# Altium integrated library Linear Technology Operational Amplifiers (LT2000-LT6000).IntLib: 1710 symbols (part 68 of 75)
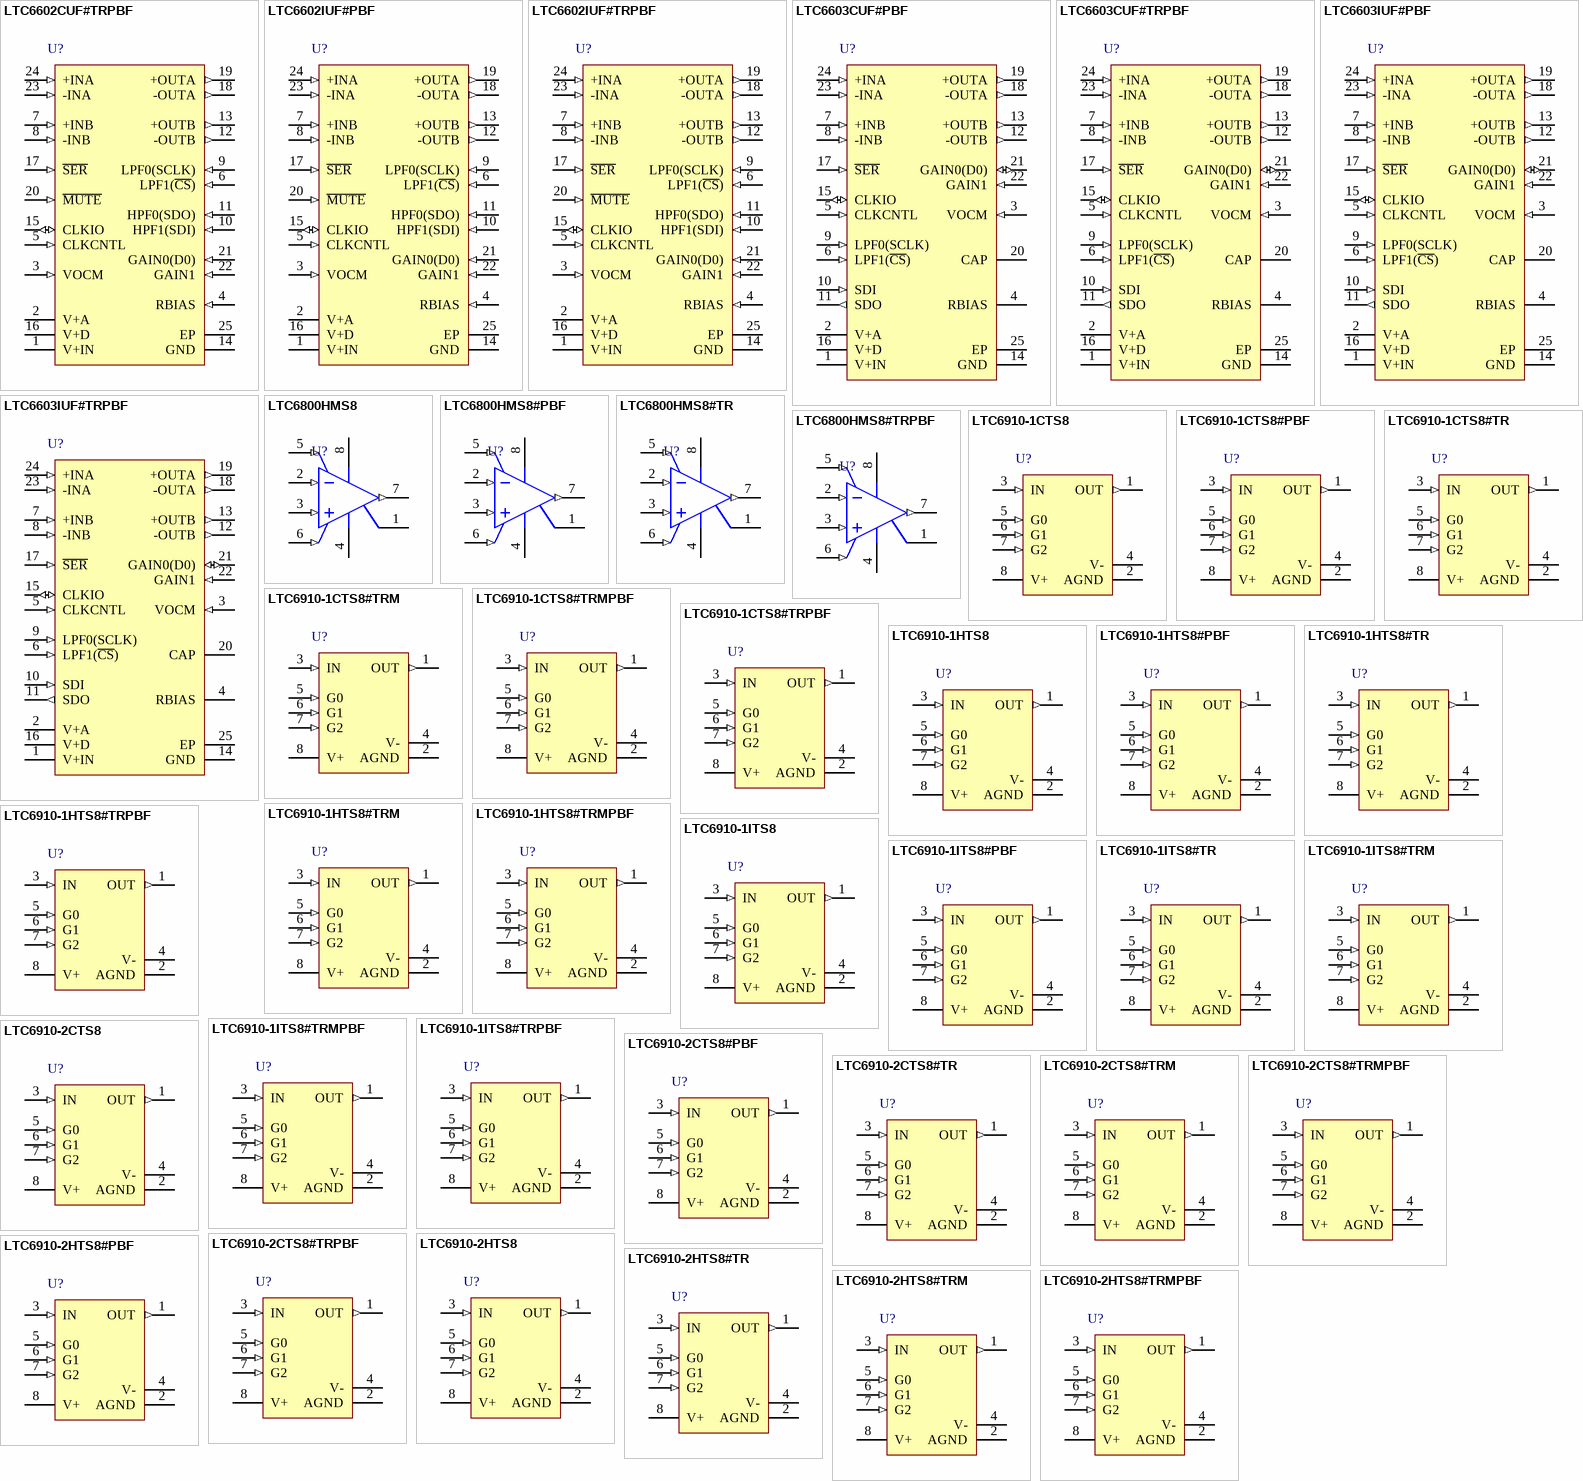
[diagram p147: symbols LTC6602CUF#TRPBF to LTC6910-2HTS8#TRMPBF]

## LTC6602CUF#TRPBF
designator U?
Dual Channel, High Frequency Bandpass / Lowpass Filter, 0.9 MHz Typical GBW, 2.7 to 3.6 V, 24-Pin QFN (UF24), Commercial, Pb-Free, Reel; Linear Technology Part Number: LTC6602; Manufacturer: Linear Technology; PartNumber: LTC6602CUF#TRPBF; Channels (#): 2; GBW (MHz) Typical: 0.9; Is (mA) Typical: 65; Vos (mV) Typical: 7; Vs Max (V): 3.6; Vs Min (V): 2.7; DatasheetVersion: Rev. C; PackageVersion: Rev B; PackageReference: LT-UF-24; PackageDescription: 24-Lead Plastic QFN, Body 4 x 4 mm, Pitch 0.5 mm; Supplier 1: Digi-Key; Supplier Part Number 1: LTC6602CUF#TRPBF-ND; Packing: Reel; RoHS: Pb-Free; Type: DIFF; Mounting Technology: Surface Mount; Code_JEDEC: MO-220; ComponentLink1Description: Manufacturer URL; ComponentLink1URL: http://www.linear.com/; ComponentLink2Description: Datasheet; ComponentLink2URL: http://cds.linear.com/docs/en/datasheet/6602fc.pdf; ComponentLink3Description: Package Specification; ComponentLink3URL: http://cds.linear.com/docs/en/packaging/%28UF24%29%20QFN%2005-08-1697%20Rev%20B.pdf
footprint LT-UF-24_N (QFN, 24-Leads, Body 4x4mm, Pitch 0.5mm, Thermal Pad 2.45x2.45mm, IPC Medium Density)
footprint LT-UF-24_L (QFN, 24-Leads, Body 4x4mm, Pitch 0.5mm, Thermal Pad 2.45x2.45mm, IPC High Density)
footprint LT-UF-24_M (QFN, 24-Leads, Body 4x4mm, Pitch 0.5mm, Thermal Pad 2.45x2.45mm, IPC Low Density)
pins: 1 V+IN (power) "Input Voltage Supply (2.7V =< V =< 5.5V). This supply must be kept free from noise and ripple. It should be bypassed directly to a ground plane with a 0.1uF capacitor unless it is tied to V+A (Pin 2). The bypass should be as (See Datasheet)", 2 V+A (power) "Analog Voltage Supply (2.7V =< V =< 3.6V). This supply must be kept free from noise and ripple. It should be bypassed directly to a ground plane with a 0.1uF capacitor. The bypass should be as close as possible to the IC.", 3 VOCM (in) "Output common mode voltage reference. If floated, an internal resistive divider sets the voltage on this pin to half the supply voltage (typically 1.5V), maximizing the dynamic range of the filter. If this pin is floated, it (See Datasheet)", 4 RBIAS (in) "Oscillator Frequency-Setting Resistor Input. The value of the resistor connected between this pin and ground determines the frequency of the master oscillator, and sets the bias currents for the filter networks. The voltage (See Datasheet)", 5 CLKCNTL (in) "Clock Control Input. This three-state input selects the function of CLKIO (Pin 15). Tying the CLKCNTL pin to ground allows the CLKIO pin to be driven by an external clock (CLKIO is the master clock input).", 6 LPF1(~{CS}) (in) "Logic Input. When in pin programmable control mode, this pin is the MSB of the lowpass cutoff frequency control code; in serial control mode, this pin is the chip select input (active low).", 7 +INB (in) "Channel B differential inputs. The input range and input resistance are described in the Applications Information section. Input voltages which exceed V+IN (Pin 1) should be avoided.", 8 -INB (in) "Channel B differential inputs. The input range and input resistance are described in the Applications Information section. Input voltages which exceed V+IN (Pin 1) should be avoided.", 9 LPF0(SCLK) (in) "Logic Input. When in pin programmable control mode, this pin is the LSB of the lowpass cutoff frequency control code; in serial control mode, this pin is the clock of the serial interface.", 10 HPF1(SDI) (in) "Logic Input. When in pin programmable control mode, this pin is the MSB of the highpass cutoff frequency control code; in serial control mode, this pin is the serial data input.", 11 HPF0(SDO) (in) "Logic Input. When in pin programmable control mode, this pin is the LSB of the highpass cutoff frequency control code; in serial control mode, this pin is the serial data output.", 12 -OUTB (out) "Channel B differential filter outputs. These pins can drive 1k and/or 50pF loads. For larger capacitive loads, an external 100ohm series resistor is recommended for each output. The common mode voltage of the filter outputs (See Datasheet)", 13 +OUTB (out) "Channel B differential filter outputs. These pins can drive 1k and/or 50pF loads. For larger capacitive loads, an external 100ohm series resistor is recommended for each output. The common mode voltage of the filter outputs (See Datasheet)", 14 GND (power) "Ground. Connect to a ground plane for best performance.", 15 CLKIO (io) "When CLKCNTL (Pin 5) is tied to ground, CLKIO is the master clock input. When CLKCNTL is floated, CLKIO is pulled to ground by a weak, 5uA pulldown. When CLKCNTL is tied to V+D (Pin 16), CLKIO is the master clock output. (See Datasheet)", 16 V+D (power) "Digital Voltage Supply (2.7V =< V =< 3.6V). This supply must be kept free from noise and ripple. It should be bypassed directly to a ground plane with a 0.1uF capacitor. The bypass should be as close as possible to the IC.", 17 ~{SER} (in) "Interface Selection Input. When tied to V+D (Pin 16), the interface is in pin programmable control mode, i.e. the filter gain and cutoff frequencies are programmed by the GAIN1, GAIN0, HPF1, HPF0, LPF1 and LPF0 pin (See Datasheet)", 18 -OUTA (out) "Channel A differential filter outputs. These pins can drive 1k and/or 50pF loads. For larger capacitive loads, an external 100ohm series resistor is recommended for each output. The common mode voltage of the filter outputs (See Datasheet)", 19 +OUTA (out) "Channel A differential filter outputs. These pins can drive 1k and/or 50pF loads. For larger capacitive loads, an external 100ohm series resistor is recommended for each output. The common mode voltage of the filter outputs (See Datasheet)", 20 ~{MUTE} (in) "MUTEX input. Drive to ground to disconnect and mute the inputs. Float or drive to V+D (Pin 16) for normal operation.", 21 GAIN0(D0) (in) "Logic Input. When in pin programmable control mode, this pin is the LSB of the gain control code; in serial control mode, this pin is the LSB of the serial control register, an output.", 22 GAIN1 (in) "Logic Input. When in pin programmable control mode, this pin is the MSB of the gain control code; in serial control mode, this pin is a no-connect.", 23 -INA (in) "Channel A differential inputs. The input range and input resistance are described in the Applications Information section. Input voltage levels can range from GND to the V+IN supply rail.", 24 +INA (in) "Channel A differential inputs. The input range and input resistance are described in the Applications Information section. Input voltage levels can range from GND to the V+IN supply rail.", 25 EP (power) "Ground. The Exposed Pad must be soldered to PCB."

## LTC6602IUF#PBF
designator U?
Dual Channel, High Frequency Bandpass / Lowpass Filter, 0.9 MHz Typical GBW, 2.7 to 3.6 V, 24-Pin QFN (UF24), Industrial, Pb-Free; Linear Technology Part Number: LTC6602; Manufacturer: Linear Technology; PartNumber: LTC6602IUF#PBF; Channels (#): 2; GBW (MHz) Typical: 0.9; Is (mA) Typical: 65; Vos (mV) Typical: 7; Vs Max (V): 3.6; Vs Min (V): 2.7; DatasheetVersion: Rev. C; PackageVersion: Rev B; PackageReference: LT-UF-24; PackageDescription: 24-Lead Plastic QFN, Body 4 x 4 mm, Pitch 0.5 mm; Supplier 1: Digi-Key; Supplier Part Number 1: LTC6602IUF#PBF-ND; RoHS: Pb-Free; Type: DIFF; Mounting Technology: Surface Mount; Code_JEDEC: MO-220; ComponentLink1Description: Manufacturer URL; ComponentLink1URL: http://www.linear.com/; ComponentLink2Description: Datasheet; ComponentLink2URL: http://cds.linear.com/docs/en/datasheet/6602fc.pdf; ComponentLink3Description: Package Specification; ComponentLink3URL: http://cds.linear.com/docs/en/packaging/%28UF24%29%20QFN%2005-08-1697%20Rev%20B.pdf
footprint LT-UF-24_N (QFN, 24-Leads, Body 4x4mm, Pitch 0.5mm, Thermal Pad 2.45x2.45mm, IPC Medium Density)
footprint LT-UF-24_L (QFN, 24-Leads, Body 4x4mm, Pitch 0.5mm, Thermal Pad 2.45x2.45mm, IPC High Density)
footprint LT-UF-24_M (QFN, 24-Leads, Body 4x4mm, Pitch 0.5mm, Thermal Pad 2.45x2.45mm, IPC Low Density)
pins: 1 V+IN (power) "Input Voltage Supply (2.7V =< V =< 5.5V). This supply must be kept free from noise and ripple. It should be bypassed directly to a ground plane with a 0.1uF capacitor unless it is tied to V+A (Pin 2). The bypass should be as (See Datasheet)", 2 V+A (power) "Analog Voltage Supply (2.7V =< V =< 3.6V). This supply must be kept free from noise and ripple. It should be bypassed directly to a ground plane with a 0.1uF capacitor. The bypass should be as close as possible to the IC.", 3 VOCM (in) "Output common mode voltage reference. If floated, an internal resistive divider sets the voltage on this pin to half the supply voltage (typically 1.5V), maximizing the dynamic range of the filter. If this pin is floated, it (See Datasheet)", 4 RBIAS (in) "Oscillator Frequency-Setting Resistor Input. The value of the resistor connected between this pin and ground determines the frequency of the master oscillator, and sets the bias currents for the filter networks. The voltage (See Datasheet)", 5 CLKCNTL (in) "Clock Control Input. This three-state input selects the function of CLKIO (Pin 15). Tying the CLKCNTL pin to ground allows the CLKIO pin to be driven by an external clock (CLKIO is the master clock input).", 6 LPF1(~{CS}) (in) "Logic Input. When in pin programmable control mode, this pin is the MSB of the lowpass cutoff frequency control code; in serial control mode, this pin is the chip select input (active low).", 7 +INB (in) "Channel B differential inputs. The input range and input resistance are described in the Applications Information section. Input voltages which exceed V+IN (Pin 1) should be avoided.", 8 -INB (in) "Channel B differential inputs. The input range and input resistance are described in the Applications Information section. Input voltages which exceed V+IN (Pin 1) should be avoided.", 9 LPF0(SCLK) (in) "Logic Input. When in pin programmable control mode, this pin is the LSB of the lowpass cutoff frequency control code; in serial control mode, this pin is the clock of the serial interface.", 10 HPF1(SDI) (in) "Logic Input. When in pin programmable control mode, this pin is the MSB of the highpass cutoff frequency control code; in serial control mode, this pin is the serial data input.", 11 HPF0(SDO) (in) "Logic Input. When in pin programmable control mode, this pin is the LSB of the highpass cutoff frequency control code; in serial control mode, this pin is the serial data output.", 12 -OUTB (out) "Channel B differential filter outputs. These pins can drive 1k and/or 50pF loads. For larger capacitive loads, an external 100ohm series resistor is recommended for each output. The common mode voltage of the filter outputs (See Datasheet)", 13 +OUTB (out) "Channel B differential filter outputs. These pins can drive 1k and/or 50pF loads. For larger capacitive loads, an external 100ohm series resistor is recommended for each output. The common mode voltage of the filter outputs (See Datasheet)", 14 GND (power) "Ground. Connect to a ground plane for best performance.", 15 CLKIO (io) "When CLKCNTL (Pin 5) is tied to ground, CLKIO is the master clock input. When CLKCNTL is floated, CLKIO is pulled to ground by a weak, 5uA pulldown. When CLKCNTL is tied to V+D (Pin 16), CLKIO is the master clock output. (See Datasheet)", 16 V+D (power) "Digital Voltage Supply (2.7V =< V =< 3.6V). This supply must be kept free from noise and ripple. It should be bypassed directly to a ground plane with a 0.1uF capacitor. The bypass should be as close as possible to the IC.", 17 ~{SER} (in) "Interface Selection Input. When tied to V+D (Pin 16), the interface is in pin programmable control mode, i.e. the filter gain and cutoff frequencies are programmed by the GAIN1, GAIN0, HPF1, HPF0, LPF1 and LPF0 pin (See Datasheet)", 18 -OUTA (out) "Channel A differential filter outputs. These pins can drive 1k and/or 50pF loads. For larger capacitive loads, an external 100ohm series resistor is recommended for each output. The common mode voltage of the filter outputs (See Datasheet)", 19 +OUTA (out) "Channel A differential filter outputs. These pins can drive 1k and/or 50pF loads. For larger capacitive loads, an external 100ohm series resistor is recommended for each output. The common mode voltage of the filter outputs (See Datasheet)", 20 ~{MUTE} (in) "MUTEX input. Drive to ground to disconnect and mute the inputs. Float or drive to V+D (Pin 16) for normal operation.", 21 GAIN0(D0) (in) "Logic Input. When in pin programmable control mode, this pin is the LSB of the gain control code; in serial control mode, this pin is the LSB of the serial control register, an output.", 22 GAIN1 (in) "Logic Input. When in pin programmable control mode, this pin is the MSB of the gain control code; in serial control mode, this pin is a no-connect.", 23 -INA (in) "Channel A differential inputs. The input range and input resistance are described in the Applications Information section. Input voltage levels can range from GND to the V+IN supply rail.", 24 +INA (in) "Channel A differential inputs. The input range and input resistance are described in the Applications Information section. Input voltage levels can range from GND to the V+IN supply rail.", 25 EP (power) "Ground. The Exposed Pad must be soldered to PCB."

## LTC6602IUF#TRPBF
designator U?
Dual Channel, High Frequency Bandpass / Lowpass Filter, 0.9 MHz Typical GBW, 2.7 to 3.6 V, 24-Pin QFN (UF24), Industrial, Pb-Free, Reel; Linear Technology Part Number: LTC6602; Manufacturer: Linear Technology; PartNumber: LTC6602IUF#TRPBF; Channels (#): 2; GBW (MHz) Typical: 0.9; Is (mA) Typical: 65; Vos (mV) Typical: 7; Vs Max (V): 3.6; Vs Min (V): 2.7; DatasheetVersion: Rev. C; PackageVersion: Rev B; PackageReference: LT-UF-24; PackageDescription: 24-Lead Plastic QFN, Body 4 x 4 mm, Pitch 0.5 mm; Supplier 1: Digi-Key; Supplier Part Number 1: LTC6602IUF#TRPBF-ND; Packing: Reel; RoHS: Pb-Free; Type: DIFF; Mounting Technology: Surface Mount; Code_JEDEC: MO-220; ComponentLink1Description: Manufacturer URL; ComponentLink1URL: http://www.linear.com/; ComponentLink2Description: Datasheet; ComponentLink2URL: http://cds.linear.com/docs/en/datasheet/6602fc.pdf; ComponentLink3Description: Package Specification; ComponentLink3URL: http://cds.linear.com/docs/en/packaging/%28UF24%29%20QFN%2005-08-1697%20Rev%20B.pdf
footprint LT-UF-24_N (QFN, 24-Leads, Body 4x4mm, Pitch 0.5mm, Thermal Pad 2.45x2.45mm, IPC Medium Density)
footprint LT-UF-24_L (QFN, 24-Leads, Body 4x4mm, Pitch 0.5mm, Thermal Pad 2.45x2.45mm, IPC High Density)
footprint LT-UF-24_M (QFN, 24-Leads, Body 4x4mm, Pitch 0.5mm, Thermal Pad 2.45x2.45mm, IPC Low Density)
pins: 1 V+IN (power) "Input Voltage Supply (2.7V =< V =< 5.5V). This supply must be kept free from noise and ripple. It should be bypassed directly to a ground plane with a 0.1uF capacitor unless it is tied to V+A (Pin 2). The bypass should be as (See Datasheet)", 2 V+A (power) "Analog Voltage Supply (2.7V =< V =< 3.6V). This supply must be kept free from noise and ripple. It should be bypassed directly to a ground plane with a 0.1uF capacitor. The bypass should be as close as possible to the IC.", 3 VOCM (in) "Output common mode voltage reference. If floated, an internal resistive divider sets the voltage on this pin to half the supply voltage (typically 1.5V), maximizing the dynamic range of the filter. If this pin is floated, it (See Datasheet)", 4 RBIAS (in) "Oscillator Frequency-Setting Resistor Input. The value of the resistor connected between this pin and ground determines the frequency of the master oscillator, and sets the bias currents for the filter networks. The voltage (See Datasheet)", 5 CLKCNTL (in) "Clock Control Input. This three-state input selects the function of CLKIO (Pin 15). Tying the CLKCNTL pin to ground allows the CLKIO pin to be driven by an external clock (CLKIO is the master clock input).", 6 LPF1(~{CS}) (in) "Logic Input. When in pin programmable control mode, this pin is the MSB of the lowpass cutoff frequency control code; in serial control mode, this pin is the chip select input (active low).", 7 +INB (in) "Channel B differential inputs. The input range and input resistance are described in the Applications Information section. Input voltages which exceed V+IN (Pin 1) should be avoided.", 8 -INB (in) "Channel B differential inputs. The input range and input resistance are described in the Applications Information section. Input voltages which exceed V+IN (Pin 1) should be avoided.", 9 LPF0(SCLK) (in) "Logic Input. When in pin programmable control mode, this pin is the LSB of the lowpass cutoff frequency control code; in serial control mode, this pin is the clock of the serial interface.", 10 HPF1(SDI) (in) "Logic Input. When in pin programmable control mode, this pin is the MSB of the highpass cutoff frequency control code; in serial control mode, this pin is the serial data input.", 11 HPF0(SDO) (in) "Logic Input. When in pin programmable control mode, this pin is the LSB of the highpass cutoff frequency control code; in serial control mode, this pin is the serial data output.", 12 -OUTB (out) "Channel B differential filter outputs. These pins can drive 1k and/or 50pF loads. For larger capacitive loads, an external 100ohm series resistor is recommended for each output. The common mode voltage of the filter outputs (See Datasheet)", 13 +OUTB (out) "Channel B differential filter outputs. These pins can drive 1k and/or 50pF loads. For larger capacitive loads, an external 100ohm series resistor is recommended for each output. The common mode voltage of the filter outputs (See Datasheet)", 14 GND (power) "Ground. Connect to a ground plane for best performance.", 15 CLKIO (io) "When CLKCNTL (Pin 5) is tied to ground, CLKIO is the master clock input. When CLKCNTL is floated, CLKIO is pulled to ground by a weak, 5uA pulldown. When CLKCNTL is tied to V+D (Pin 16), CLKIO is the master clock output. (See Datasheet)", 16 V+D (power) "Digital Voltage Supply (2.7V =< V =< 3.6V). This supply must be kept free from noise and ripple. It should be bypassed directly to a ground plane with a 0.1uF capacitor. The bypass should be as close as possible to the IC.", 17 ~{SER} (in) "Interface Selection Input. When tied to V+D (Pin 16), the interface is in pin programmable control mode, i.e. the filter gain and cutoff frequencies are programmed by the GAIN1, GAIN0, HPF1, HPF0, LPF1 and LPF0 pin (See Datasheet)", 18 -OUTA (out) "Channel A differential filter outputs. These pins can drive 1k and/or 50pF loads. For larger capacitive loads, an external 100ohm series resistor is recommended for each output. The common mode voltage of the filter outputs (See Datasheet)", 19 +OUTA (out) "Channel A differential filter outputs. These pins can drive 1k and/or 50pF loads. For larger capacitive loads, an external 100ohm series resistor is recommended for each output. The common mode voltage of the filter outputs (See Datasheet)", 20 ~{MUTE} (in) "MUTEX input. Drive to ground to disconnect and mute the inputs. Float or drive to V+D (Pin 16) for normal operation.", 21 GAIN0(D0) (in) "Logic Input. When in pin programmable control mode, this pin is the LSB of the gain control code; in serial control mode, this pin is the LSB of the serial control register, an output.", 22 GAIN1 (in) "Logic Input. When in pin programmable control mode, this pin is the MSB of the gain control code; in serial control mode, this pin is a no-connect.", 23 -INA (in) "Channel A differential inputs. The input range and input resistance are described in the Applications Information section. Input voltage levels can range from GND to the V+IN supply rail.", 24 +INA (in) "Channel A differential inputs. The input range and input resistance are described in the Applications Information section. Input voltage levels can range from GND to the V+IN supply rail.", 25 EP (power) "Ground. The Exposed Pad must be soldered to PCB."

## LTC6603CUF#PBF
designator U?
Dual Channel, Adjustable Lowpass Filter, 2.5 MHz Typical GBW, 2.7 to 3.6 V, 24-Pin QFN (UF24), Commercial, Pb-Free; Linear Technology Part Number: LTC6603; Manufacturer: Linear Technology; PartNumber: LTC6603CUF#PBF; Channels (#): 2; GBW (MHz) Typical: 2.5; Is (mA) Typical: 88; Vos (mV) Typical: 8; Vs Max (V): 3.6; Vs Min (V): 2.7; DatasheetVersion: Rev. A; PackageVersion: Rev B; PackageReference: LT-UF-24; PackageDescription: 24-Lead Plastic QFN, Body 4 x 4 mm, Pitch 0.5 mm; Supplier 1: Digi-Key; Supplier Part Number 1: LTC6603CUF#PBF-ND; Supplier 2: Farnell; Supplier Part Number 2: 1673527; Supplier 3: Newark; Supplier Part Number 3: 02P7627; RoHS: Pb-Free; Type: DIFF; Mounting Technology: Surface Mount; Code_JEDEC: MO-220; ComponentLink1Description: Manufacturer URL; ComponentLink1URL: http://www.linear.com/; ComponentLink2Description: Datasheet; ComponentLink2URL: http://cds.linear.com/docs/en/datasheet/6603fa.pdf; ComponentLink3Description: Package Specification; ComponentLink3URL: http://cds.linear.com/docs/en/packaging/%28UF24%29%20QFN%2005-08-1697%20Rev%20B.pdf
footprint LT-UF-24_N (QFN, 24-Leads, Body 4x4mm, Pitch 0.5mm, Thermal Pad 2.45x2.45mm, IPC Medium Density)
footprint LT-UF-24_L (QFN, 24-Leads, Body 4x4mm, Pitch 0.5mm, Thermal Pad 2.45x2.45mm, IPC High Density)
footprint LT-UF-24_M (QFN, 24-Leads, Body 4x4mm, Pitch 0.5mm, Thermal Pad 2.45x2.45mm, IPC Low Density)
pins: 1 V+IN (power) "Input Voltage Supply (2.7V =< V =< 5.5V). This supply must be kept free from noise and ripple. It should be bypassed directly to a ground plane with a 0.1uF capacitor unless it is tied to V+A (Pin 2). The bypass should be as (See Datasheet)", 2 V+A (power) "Analog Voltage Supply (2.7V =< V =< 3.6V). This supply must be kept free from noise and ripple. It should be bypassed directly to a ground plane with a 0.1uF capacitor. The bypass should be as close as possible to the IC.", 3 VOCM (in) "Output common mode voltage reference. If floated, an internal resistive divider sets the voltage on this pin to half the supply voltage (typically 1.5V), maximizing the dynamic range of the filter. If this pin is floated, it (See Datasheet)", 4 RBIAS "Oscillator Frequency-Setting Resistor Input. The value of the resistor connected between this pin and ground determines the frequency of the master oscillator, and sets the bias currents for the fi lter networks. The voltage (See Datasheet)", 5 CLKCNTL (in) "Clock Control Input. This three-state input selects the function of CLKIO (Pin 15). Tying the CLKCNTL pin to ground allows the CLKIO pin to be driven by an external clock (CLKIO is the master clock input).", 6 LPF1(~{CS}) (in) "TTL Level Input. When in pin programmable control mode, this pin is the MSB of the lowpass cutoff frequency control code; in serial control mode, this pin is the chip select input (active low).", 7 +INB (in) "Channel B Differential Inputs. The input range and input resistance are described in the Applications Information section. Input voltages which exceed V+IN (Pin 1) should be avoided.", 8 -INB (in) "Channel B Differential Inputs. The input range and input resistance are described in the Applications Information section. Input voltages which exceed V+IN (Pin 1) should be avoided.", 9 LPF0(SCLK) (in) "TTL Level Input. When in pin programmable control mode, this pin is the LSB of the lowpass cutoff frequency control code; in serial control mode, this pin is the clock of the serial interface.", 10 SDI (in) "TTL Level Input. When in pin programmable control mode, this pin is left floating; in serial control mode, this pin is the serial data input.", 11 SDO (out) "TTL Level Input. When in pin programmable control mode, this pin is left floating; in serial control mode, this pin is the serial data output.", 12 -OUTB (out) "Channel B differential filter outputs. These pins can drive 1k and/or 50pF loads. For larger capacitive loads, an external 100ohm series resistor is recommended for each output. The common mode voltage of the filter outputs (See Datasheet)", 13 +OUTB (out) "Channel B differential filter outputs. These pins can drive 1k and/or 50pF loads. For larger capacitive loads, an external 100ohm series resistor is recommended for each output. The common mode voltage of the filter outputs (See Datasheet)", 14 GND (power) "Ground. Connect to a ground plane for best performance.", 15 CLKIO (io) "When CLKCNTL (Pin 5) is tied to ground, CLKIO is the master clock input. When CLKCNTL is floated, CLKIO is pulled to ground by a weak pulldown. When CLKCNTL is tied to V+D (Pin 16), CLKIO is the master clock output. When (See Datasheet)", 16 V+D (power) "Digital Voltage Supply (2.7V =< V =< 3.6V). This supply must be kept free from noise and ripple. It should be bypassed directly to a ground plane with a 0.1uF capacitor. The bypass should be as close as possible to the IC.", 17 ~{SER} (in) "Interface Selection Input. When tied to V+D (Pin 16) or floated, the interface is in pin programmable control mode, i.e. the filter gain and cutoff frequencies are programmed by the GAIN1, GAIN0, LPF1 and LPF0 pins. When (See Datasheet)", 18 -OUTA (out) "Channel A differential filter outputs. These pins can drive 1k and/or 50pF loads. For larger capacitive loads, an external 100ohm series resistor is recommended for each output. The common mode voltage of the filter outputs (See Datasheet)", 19 +OUTA (out) "Channel A differential filter outputs. These pins can drive 1k and/or 50pF loads. For larger capacitive loads, an external 100ohm series resistor is recommended for each output. The common mode voltage of the filter outputs (See Datasheet)", 20 CAP "Connect a 0.1uF bypass capacitor to this pin. Pin 20 is a buffered version of Pin 3.", 21 GAIN0(D0) (io) "TTL Level Input. When in pin programmable control mode, this pin is the LSB of the gain control code; in serial control mode, this pin is the LSB of the serial control register, an output.", 22 GAIN1 (in) "TTL Level Input. When in pin programmable control mode, this pin is the MSB of the gain control code; in serial control mode, this pin is a no-connect.", 23 -INA (in) "Channel A Differential Inputs. The input range and input resistance are described in the Applications Information section. Input voltages which exceed V+IN (Pin 1) should be avoided.", 24 +INA (in) "Channel A Differential Inputs. The input range and input resistance are described in the Applications Information section. Input voltages which exceed V+IN (Pin 1) should be avoided.", 25 EP (power) "Ground. The Exposed Pad must be soldered to PCB."

## LTC6603CUF#TRPBF
designator U?
Dual Channel, Adjustable Lowpass Filter, 2.5 MHz Typical GBW, 2.7 to 3.6 V, 24-Pin QFN (UF24), Commercial, Pb-Free, Reel; Linear Technology Part Number: LTC6603; Manufacturer: Linear Technology; PartNumber: LTC6603CUF#TRPBF; Channels (#): 2; GBW (MHz) Typical: 2.5; Is (mA) Typical: 88; Vos (mV) Typical: 8; Vs Max (V): 3.6; Vs Min (V): 2.7; DatasheetVersion: Rev. A; PackageVersion: Rev B; PackageReference: LT-UF-24; PackageDescription: 24-Lead Plastic QFN, Body 4 x 4 mm, Pitch 0.5 mm; Supplier 1: Digi-Key; Supplier Part Number 1: LTC6603CUF#TRPBF-ND; Packing: Reel; RoHS: Pb-Free; Type: DIFF; Mounting Technology: Surface Mount; Code_JEDEC: MO-220; ComponentLink1Description: Manufacturer URL; ComponentLink1URL: http://www.linear.com/; ComponentLink2Description: Datasheet; ComponentLink2URL: http://cds.linear.com/docs/en/datasheet/6603fa.pdf; ComponentLink3Description: Package Specification; ComponentLink3URL: http://cds.linear.com/docs/en/packaging/%28UF24%29%20QFN%2005-08-1697%20Rev%20B.pdf
footprint LT-UF-24_N (QFN, 24-Leads, Body 4x4mm, Pitch 0.5mm, Thermal Pad 2.45x2.45mm, IPC Medium Density)
footprint LT-UF-24_L (QFN, 24-Leads, Body 4x4mm, Pitch 0.5mm, Thermal Pad 2.45x2.45mm, IPC High Density)
footprint LT-UF-24_M (QFN, 24-Leads, Body 4x4mm, Pitch 0.5mm, Thermal Pad 2.45x2.45mm, IPC Low Density)
pins: 1 V+IN (power) "Input Voltage Supply (2.7V =< V =< 5.5V). This supply must be kept free from noise and ripple. It should be bypassed directly to a ground plane with a 0.1uF capacitor unless it is tied to V+A (Pin 2). The bypass should be as (See Datasheet)", 2 V+A (power) "Analog Voltage Supply (2.7V =< V =< 3.6V). This supply must be kept free from noise and ripple. It should be bypassed directly to a ground plane with a 0.1uF capacitor. The bypass should be as close as possible to the IC.", 3 VOCM (in) "Output common mode voltage reference. If floated, an internal resistive divider sets the voltage on this pin to half the supply voltage (typically 1.5V), maximizing the dynamic range of the filter. If this pin is floated, it (See Datasheet)", 4 RBIAS "Oscillator Frequency-Setting Resistor Input. The value of the resistor connected between this pin and ground determines the frequency of the master oscillator, and sets the bias currents for the fi lter networks. The voltage (See Datasheet)", 5 CLKCNTL (in) "Clock Control Input. This three-state input selects the function of CLKIO (Pin 15). Tying the CLKCNTL pin to ground allows the CLKIO pin to be driven by an external clock (CLKIO is the master clock input).", 6 LPF1(~{CS}) (in) "TTL Level Input. When in pin programmable control mode, this pin is the MSB of the lowpass cutoff frequency control code; in serial control mode, this pin is the chip select input (active low).", 7 +INB (in) "Channel B Differential Inputs. The input range and input resistance are described in the Applications Information section. Input voltages which exceed V+IN (Pin 1) should be avoided.", 8 -INB (in) "Channel B Differential Inputs. The input range and input resistance are described in the Applications Information section. Input voltages which exceed V+IN (Pin 1) should be avoided.", 9 LPF0(SCLK) (in) "TTL Level Input. When in pin programmable control mode, this pin is the LSB of the lowpass cutoff frequency control code; in serial control mode, this pin is the clock of the serial interface.", 10 SDI (in) "TTL Level Input. When in pin programmable control mode, this pin is left floating; in serial control mode, this pin is the serial data input.", 11 SDO (out) "TTL Level Input. When in pin programmable control mode, this pin is left floating; in serial control mode, this pin is the serial data output.", 12 -OUTB (out) "Channel B differential filter outputs. These pins can drive 1k and/or 50pF loads. For larger capacitive loads, an external 100ohm series resistor is recommended for each output. The common mode voltage of the filter outputs (See Datasheet)", 13 +OUTB (out) "Channel B differential filter outputs. These pins can drive 1k and/or 50pF loads. For larger capacitive loads, an external 100ohm series resistor is recommended for each output. The common mode voltage of the filter outputs (See Datasheet)", 14 GND (power) "Ground. Connect to a ground plane for best performance.", 15 CLKIO (io) "When CLKCNTL (Pin 5) is tied to ground, CLKIO is the master clock input. When CLKCNTL is floated, CLKIO is pulled to ground by a weak pulldown. When CLKCNTL is tied to V+D (Pin 16), CLKIO is the master clock output. When (See Datasheet)", 16 V+D (power) "Digital Voltage Supply (2.7V =< V =< 3.6V). This supply must be kept free from noise and ripple. It should be bypassed directly to a ground plane with a 0.1uF capacitor. The bypass should be as close as possible to the IC.", 17 ~{SER} (in) "Interface Selection Input. When tied to V+D (Pin 16) or floated, the interface is in pin programmable control mode, i.e. the filter gain and cutoff frequencies are programmed by the GAIN1, GAIN0, LPF1 and LPF0 pins. When (See Datasheet)", 18 -OUTA (out) "Channel A differential filter outputs. These pins can drive 1k and/or 50pF loads. For larger capacitive loads, an external 100ohm series resistor is recommended for each output. The common mode voltage of the filter outputs (See Datasheet)", 19 +OUTA (out) "Channel A differential filter outputs. These pins can drive 1k and/or 50pF loads. For larger capacitive loads, an external 100ohm series resistor is recommended for each output. The common mode voltage of the filter outputs (See Datasheet)", 20 CAP "Connect a 0.1uF bypass capacitor to this pin. Pin 20 is a buffered version of Pin 3.", 21 GAIN0(D0) (io) "TTL Level Input. When in pin programmable control mode, this pin is the LSB of the gain control code; in serial control mode, this pin is the LSB of the serial control register, an output.", 22 GAIN1 (in) "TTL Level Input. When in pin programmable control mode, this pin is the MSB of the gain control code; in serial control mode, this pin is a no-connect.", 23 -INA (in) "Channel A Differential Inputs. The input range and input resistance are described in the Applications Information section. Input voltages which exceed V+IN (Pin 1) should be avoided.", 24 +INA (in) "Channel A Differential Inputs. The input range and input resistance are described in the Applications Information section. Input voltages which exceed V+IN (Pin 1) should be avoided.", 25 EP (power) "Ground. The Exposed Pad must be soldered to PCB."

## LTC6603IUF#PBF
designator U?
Dual Channel, Adjustable Lowpass Filter, 2.5 MHz Typical GBW, 2.7 to 3.6 V, 24-Pin QFN (UF24), Industrial, Pb-Free; Linear Technology Part Number: LTC6603; Manufacturer: Linear Technology; PartNumber: LTC6603IUF#PBF; Channels (#): 2; GBW (MHz) Typical: 2.5; Is (mA) Typical: 88; Vos (mV) Typical: 8; Vs Max (V): 3.6; Vs Min (V): 2.7; DatasheetVersion: Rev. A; PackageVersion: Rev B; PackageReference: LT-UF-24; PackageDescription: 24-Lead Plastic QFN, Body 4 x 4 mm, Pitch 0.5 mm; Supplier 1: Digi-Key; Supplier Part Number 1: LTC6603IUF#PBF-ND; Supplier 2: Farnell; Supplier Part Number 2: 1673528; Supplier 3: Newark; Supplier Part Number 3: 02P7629; RoHS: Pb-Free; Type: DIFF; Mounting Technology: Surface Mount; Code_JEDEC: MO-220; ComponentLink1Description: Manufacturer URL; ComponentLink1URL: http://www.linear.com/; ComponentLink2Description: Datasheet; ComponentLink2URL: http://cds.linear.com/docs/en/datasheet/6603fa.pdf; ComponentLink3Description: Package Specification; ComponentLink3URL: http://cds.linear.com/docs/en/packaging/%28UF24%29%20QFN%2005-08-1697%20Rev%20B.pdf
footprint LT-UF-24_N (QFN, 24-Leads, Body 4x4mm, Pitch 0.5mm, Thermal Pad 2.45x2.45mm, IPC Medium Density)
footprint LT-UF-24_L (QFN, 24-Leads, Body 4x4mm, Pitch 0.5mm, Thermal Pad 2.45x2.45mm, IPC High Density)
footprint LT-UF-24_M (QFN, 24-Leads, Body 4x4mm, Pitch 0.5mm, Thermal Pad 2.45x2.45mm, IPC Low Density)
pins: 1 V+IN (power) "Input Voltage Supply (2.7V =< V =< 5.5V). This supply must be kept free from noise and ripple. It should be bypassed directly to a ground plane with a 0.1uF capacitor unless it is tied to V+A (Pin 2). The bypass should be as (See Datasheet)", 2 V+A (power) "Analog Voltage Supply (2.7V =< V =< 3.6V). This supply must be kept free from noise and ripple. It should be bypassed directly to a ground plane with a 0.1uF capacitor. The bypass should be as close as possible to the IC.", 3 VOCM (in) "Output common mode voltage reference. If floated, an internal resistive divider sets the voltage on this pin to half the supply voltage (typically 1.5V), maximizing the dynamic range of the filter. If this pin is floated, it (See Datasheet)", 4 RBIAS "Oscillator Frequency-Setting Resistor Input. The value of the resistor connected between this pin and ground determines the frequency of the master oscillator, and sets the bias currents for the fi lter networks. The voltage (See Datasheet)", 5 CLKCNTL (in) "Clock Control Input. This three-state input selects the function of CLKIO (Pin 15). Tying the CLKCNTL pin to ground allows the CLKIO pin to be driven by an external clock (CLKIO is the master clock input).", 6 LPF1(~{CS}) (in) "TTL Level Input. When in pin programmable control mode, this pin is the MSB of the lowpass cutoff frequency control code; in serial control mode, this pin is the chip select input (active low).", 7 +INB (in) "Channel B Differential Inputs. The input range and input resistance are described in the Applications Information section. Input voltages which exceed V+IN (Pin 1) should be avoided.", 8 -INB (in) "Channel B Differential Inputs. The input range and input resistance are described in the Applications Information section. Input voltages which exceed V+IN (Pin 1) should be avoided.", 9 LPF0(SCLK) (in) "TTL Level Input. When in pin programmable control mode, this pin is the LSB of the lowpass cutoff frequency control code; in serial control mode, this pin is the clock of the serial interface.", 10 SDI (in) "TTL Level Input. When in pin programmable control mode, this pin is left floating; in serial control mode, this pin is the serial data input.", 11 SDO (out) "TTL Level Input. When in pin programmable control mode, this pin is left floating; in serial control mode, this pin is the serial data output.", 12 -OUTB (out) "Channel B differential filter outputs. These pins can drive 1k and/or 50pF loads. For larger capacitive loads, an external 100ohm series resistor is recommended for each output. The common mode voltage of the filter outputs (See Datasheet)", 13 +OUTB (out) "Channel B differential filter outputs. These pins can drive 1k and/or 50pF loads. For larger capacitive loads, an external 100ohm series resistor is recommended for each output. The common mode voltage of the filter outputs (See Datasheet)", 14 GND (power) "Ground. Connect to a ground plane for best performance.", 15 CLKIO (io) "When CLKCNTL (Pin 5) is tied to ground, CLKIO is the master clock input. When CLKCNTL is floated, CLKIO is pulled to ground by a weak pulldown. When CLKCNTL is tied to V+D (Pin 16), CLKIO is the master clock output. When (See Datasheet)", 16 V+D (power) "Digital Voltage Supply (2.7V =< V =< 3.6V). This supply must be kept free from noise and ripple. It should be bypassed directly to a ground plane with a 0.1uF capacitor. The bypass should be as close as possible to the IC.", 17 ~{SER} (in) "Interface Selection Input. When tied to V+D (Pin 16) or floated, the interface is in pin programmable control mode, i.e. the filter gain and cutoff frequencies are programmed by the GAIN1, GAIN0, LPF1 and LPF0 pins. When (See Datasheet)", 18 -OUTA (out) "Channel A differential filter outputs. These pins can drive 1k and/or 50pF loads. For larger capacitive loads, an external 100ohm series resistor is recommended for each output. The common mode voltage of the filter outputs (See Datasheet)", 19 +OUTA (out) "Channel A differential filter outputs. These pins can drive 1k and/or 50pF loads. For larger capacitive loads, an external 100ohm series resistor is recommended for each output. The common mode voltage of the filter outputs (See Datasheet)", 20 CAP "Connect a 0.1uF bypass capacitor to this pin. Pin 20 is a buffered version of Pin 3.", 21 GAIN0(D0) (io) "TTL Level Input. When in pin programmable control mode, this pin is the LSB of the gain control code; in serial control mode, this pin is the LSB of the serial control register, an output.", 22 GAIN1 (in) "TTL Level Input. When in pin programmable control mode, this pin is the MSB of the gain control code; in serial control mode, this pin is a no-connect.", 23 -INA (in) "Channel A Differential Inputs. The input range and input resistance are described in the Applications Information section. Input voltages which exceed V+IN (Pin 1) should be avoided.", 24 +INA (in) "Channel A Differential Inputs. The input range and input resistance are described in the Applications Information section. Input voltages which exceed V+IN (Pin 1) should be avoided.", 25 EP (power) "Ground. The Exposed Pad must be soldered to PCB."

## LTC6603IUF#TRPBF
designator U?
Dual Channel, Adjustable Lowpass Filter, 2.5 MHz Typical GBW, 2.7 to 3.6 V, 24-Pin QFN (UF24), Industrial, Pb-Free, Reel; Linear Technology Part Number: LTC6603; Manufacturer: Linear Technology; PartNumber: LTC6603IUF#TRPBF; Channels (#): 2; GBW (MHz) Typical: 2.5; Is (mA) Typical: 88; Vos (mV) Typical: 8; Vs Max (V): 3.6; Vs Min (V): 2.7; DatasheetVersion: Rev. A; PackageVersion: Rev B; PackageReference: LT-UF-24; PackageDescription: 24-Lead Plastic QFN, Body 4 x 4 mm, Pitch 0.5 mm; Supplier 1: Digi-Key; Supplier Part Number 1: LTC6603IUF#TRPBF-ND; Packing: Reel; RoHS: Pb-Free; Type: DIFF; Mounting Technology: Surface Mount; Code_JEDEC: MO-220; ComponentLink1Description: Manufacturer URL; ComponentLink1URL: http://www.linear.com/; ComponentLink2Description: Datasheet; ComponentLink2URL: http://cds.linear.com/docs/en/datasheet/6603fa.pdf; ComponentLink3Description: Package Specification; ComponentLink3URL: http://cds.linear.com/docs/en/packaging/%28UF24%29%20QFN%2005-08-1697%20Rev%20B.pdf
footprint LT-UF-24_N (QFN, 24-Leads, Body 4x4mm, Pitch 0.5mm, Thermal Pad 2.45x2.45mm, IPC Medium Density)
footprint LT-UF-24_L (QFN, 24-Leads, Body 4x4mm, Pitch 0.5mm, Thermal Pad 2.45x2.45mm, IPC High Density)
footprint LT-UF-24_M (QFN, 24-Leads, Body 4x4mm, Pitch 0.5mm, Thermal Pad 2.45x2.45mm, IPC Low Density)
pins: 1 V+IN (power) "Input Voltage Supply (2.7V =< V =< 5.5V). This supply must be kept free from noise and ripple. It should be bypassed directly to a ground plane with a 0.1uF capacitor unless it is tied to V+A (Pin 2). The bypass should be as (See Datasheet)", 2 V+A (power) "Analog Voltage Supply (2.7V =< V =< 3.6V). This supply must be kept free from noise and ripple. It should be bypassed directly to a ground plane with a 0.1uF capacitor. The bypass should be as close as possible to the IC.", 3 VOCM (in) "Output common mode voltage reference. If floated, an internal resistive divider sets the voltage on this pin to half the supply voltage (typically 1.5V), maximizing the dynamic range of the filter. If this pin is floated, it (See Datasheet)", 4 RBIAS "Oscillator Frequency-Setting Resistor Input. The value of the resistor connected between this pin and ground determines the frequency of the master oscillator, and sets the bias currents for the fi lter networks. The voltage (See Datasheet)", 5 CLKCNTL (in) "Clock Control Input. This three-state input selects the function of CLKIO (Pin 15). Tying the CLKCNTL pin to ground allows the CLKIO pin to be driven by an external clock (CLKIO is the master clock input).", 6 LPF1(~{CS}) (in) "TTL Level Input. When in pin programmable control mode, this pin is the MSB of the lowpass cutoff frequency control code; in serial control mode, this pin is the chip select input (active low).", 7 +INB (in) "Channel B Differential Inputs. The input range and input resistance are described in the Applications Information section. Input voltages which exceed V+IN (Pin 1) should be avoided.", 8 -INB (in) "Channel B Differential Inputs. The input range and input resistance are described in the Applications Information section. Input voltages which exceed V+IN (Pin 1) should be avoided.", 9 LPF0(SCLK) (in) "TTL Level Input. When in pin programmable control mode, this pin is the LSB of the lowpass cutoff frequency control code; in serial control mode, this pin is the clock of the serial interface.", 10 SDI (in) "TTL Level Input. When in pin programmable control mode, this pin is left floating; in serial control mode, this pin is the serial data input.", 11 SDO (out) "TTL Level Input. When in pin programmable control mode, this pin is left floating; in serial control mode, this pin is the serial data output.", 12 -OUTB (out) "Channel B differential filter outputs. These pins can drive 1k and/or 50pF loads. For larger capacitive loads, an external 100ohm series resistor is recommended for each output. The common mode voltage of the filter outputs (See Datasheet)", 13 +OUTB (out) "Channel B differential filter outputs. These pins can drive 1k and/or 50pF loads. For larger capacitive loads, an external 100ohm series resistor is recommended for each output. The common mode voltage of the filter outputs (See Datasheet)", 14 GND (power) "Ground. Connect to a ground plane for best performance.", 15 CLKIO (io) "When CLKCNTL (Pin 5) is tied to ground, CLKIO is the master clock input. When CLKCNTL is floated, CLKIO is pulled to ground by a weak pulldown. When CLKCNTL is tied to V+D (Pin 16), CLKIO is the master clock output. When (See Datasheet)", 16 V+D (power) "Digital Voltage Supply (2.7V =< V =< 3.6V). This supply must be kept free from noise and ripple. It should be bypassed directly to a ground plane with a 0.1uF capacitor. The bypass should be as close as possible to the IC.", 17 ~{SER} (in) "Interface Selection Input. When tied to V+D (Pin 16) or floated, the interface is in pin programmable control mode, i.e. the filter gain and cutoff frequencies are programmed by the GAIN1, GAIN0, LPF1 and LPF0 pins. When (See Datasheet)", 18 -OUTA (out) "Channel A differential filter outputs. These pins can drive 1k and/or 50pF loads. For larger capacitive loads, an external 100ohm series resistor is recommended for each output. The common mode voltage of the filter outputs (See Datasheet)", 19 +OUTA (out) "Channel A differential filter outputs. These pins can drive 1k and/or 50pF loads. For larger capacitive loads, an external 100ohm series resistor is recommended for each output. The common mode voltage of the filter outputs (See Datasheet)", 20 CAP "Connect a 0.1uF bypass capacitor to this pin. Pin 20 is a buffered version of Pin 3.", 21 GAIN0(D0) (io) "TTL Level Input. When in pin programmable control mode, this pin is the LSB of the gain control code; in serial control mode, this pin is the LSB of the serial control register, an output.", 22 GAIN1 (in) "TTL Level Input. When in pin programmable control mode, this pin is the MSB of the gain control code; in serial control mode, this pin is a no-connect.", 23 -INA (in) "Channel A Differential Inputs. The input range and input resistance are described in the Applications Information section. Input voltages which exceed V+IN (Pin 1) should be avoided.", 24 +INA (in) "Channel A Differential Inputs. The input range and input resistance are described in the Applications Information section. Input voltages which exceed V+IN (Pin 1) should be avoided.", 25 EP (power) "Ground. The Exposed Pad must be soldered to PCB."

## LTC6800HMS8
designator U?
Single Channel, Zero-Drift, Instrumentation Amplifier, RRIO, 0.2 MHz Typical GBW, 0.2 V/us Typical SR, 2.7 to 5.5 V, 8-Pin SOP (MS8-8), High Temperature / Automotive; Linear Technology Part Number: LTC6800; Manufacturer: Linear Technology; PartNumber: LTC6800HMS8; Channels (#): 1; GBW (MHz) Typical: 0.2; Is (mA) Typical: 0.95; Vos (mV) Typical: 0.1; Vs Max (V): 5.5; Vs Min (V): 2.7; DatasheetVersion: Rev. B; PackageVersion: Rev G; PackageReference: LT-MS8-8; PackageDescription: 8-Lead Plastic Small Outline, Body 3.9 x 4.9 mm, Pitch 1.27 mm; Supplier 1: Digi-Key; Supplier Part Number 1: LTC6800HMS8-ND; SR (V/us) Typical: 0.2; Type: ZD, IA; Mounting Technology: Surface Mount; ComponentLink1Description: Manufacturer URL; ComponentLink1URL: http://www.linear.com/; ComponentLink2Description: Datasheet; ComponentLink2URL: http://cds.linear.com/docs/en/datasheet/6800fb.pdf; ComponentLink3Description: Package Specification; ComponentLink3URL: http://cds.linear.com/docs/en/packaging/05081610_G_SO8.pdf
footprint LT-MS8-8_N (SOP, 8-Leads, Body 3x3mm, Pitch 0.65mm, IPC Medium Density)
footprint LT-MS8-8_L (SOP, 8-Leads, Body 3x3mm, Pitch 0.65mm, IPC High Density)
footprint LT-MS8-8_M (SOP, 8-Leads, Body 3x3mm, Pitch 0.65mm, IPC Low Density)
pins: 1 NC "Not Connected.", 2 -IN (in) "Inverting Input.", 3 +IN (in) "Noninverting Input.", 4 V- (power) "Negative Supply.", 5 REF (in) "Voltage Reference (VREF) for Amplifier Output.", 6 RG (in) "Inverting Input of Internal Op Amp.", 7 OUT (out) "Amplifier Output.", 8 V+ (power) "Positive Supply."

## LTC6800HMS8#PBF
designator U?
Single Channel, Zero-Drift, Instrumentation Amplifier, RRIO, 0.2 MHz Typical GBW, 0.2 V/us Typical SR, 2.7 to 5.5 V, 8-Pin SOP (MS8-8), High Temperature / Automotive, Pb-Free; Linear Technology Part Number: LTC6800; Manufacturer: Linear Technology; PartNumber: LTC6800HMS8#PBF; Channels (#): 1; GBW (MHz) Typical: 0.2; Is (mA) Typical: 0.95; Vos (mV) Typical: 0.1; Vs Max (V): 5.5; Vs Min (V): 2.7; DatasheetVersion: Rev. B; PackageVersion: Rev G; PackageReference: LT-MS8-8; PackageDescription: 8-Lead Plastic Small Outline, Body 3.9 x 4.9 mm, Pitch 1.27 mm; Supplier 1: Digi-Key; Supplier Part Number 1: LTC6800HMS8#PBF-ND; Supplier 2: Farnell; Supplier Part Number 2: 1330972; Supplier 3: Newark; Supplier Part Number 3: 57M0141; RoHS: Pb-Free; SR (V/us) Typical: 0.2; Type: ZD, IA; Mounting Technology: Surface Mount; ComponentLink1Description: Manufacturer URL; ComponentLink1URL: http://www.linear.com/; ComponentLink2Description: Datasheet; ComponentLink2URL: http://cds.linear.com/docs/en/datasheet/6800fb.pdf; ComponentLink3Description: Package Specification; ComponentLink3URL: http://cds.linear.com/docs/en/packaging/05081610_G_SO8.pdf
footprint LT-MS8-8_N (SOP, 8-Leads, Body 3x3mm, Pitch 0.65mm, IPC Medium Density)
footprint LT-MS8-8_L (SOP, 8-Leads, Body 3x3mm, Pitch 0.65mm, IPC High Density)
footprint LT-MS8-8_M (SOP, 8-Leads, Body 3x3mm, Pitch 0.65mm, IPC Low Density)
pins: 1 NC "Not Connected.", 2 -IN (in) "Inverting Input.", 3 +IN (in) "Noninverting Input.", 4 V- (power) "Negative Supply.", 5 REF (in) "Voltage Reference (VREF) for Amplifier Output.", 6 RG (in) "Inverting Input of Internal Op Amp.", 7 OUT (out) "Amplifier Output.", 8 V+ (power) "Positive Supply."